# EAGLE library part USB_MULTI (library connector)
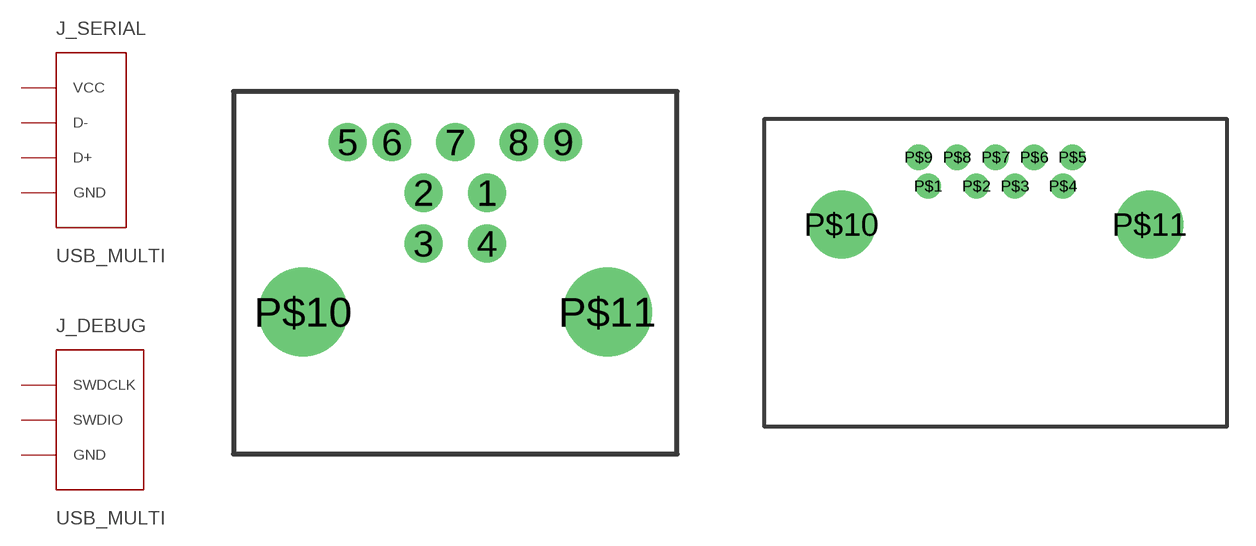
[diagram p5: symbol with the pads of USB3.0_B; footprints USB3.0_B, USB3.0_A]

Designator prefix J; gates _SERIAL=USB _DEBUG=USB_DEBUG

## USB_MULTI  [USB3.0_B]
1  _SERIAL:VCC
2  _SERIAL:D-
3  _SERIAL:D+
4  _SERIAL:GND
6  _DEBUG:SWDIO
7  _DEBUG:GND
9  _DEBUG:SWDCLK
P$10  _SERIAL:GND
P$11  _SERIAL:GND

## USB_MULTI_ATYPE_ANGLE  [USB3.0_A]
P$1  _SERIAL:VCC
P$2  _SERIAL:D-
P$3  _SERIAL:D+
P$4  _SERIAL:GND
P$6  _DEBUG:SWDIO
P$7  _DEBUG:GND
P$9  _DEBUG:SWDCLK
P$10  _SERIAL:GND
P$11  _SERIAL:GND

## Footprint USB3.0_B (pad centres in mm)
drill 1: 1 0,0; 2 -2.5,0; 3 -2.5,-2; 4 0,-2; 5 -5.5,2; 6 -3.75,2; 7 -1.25,2; 8 1.25,2; 9 3,2
drill 2.5: P$10 -7.25,-4.7; P$11 4.75,-4.7

## Footprint USB3.0_A (pad centres in mm)
drill 0.8: P$1 -3.5,-1.5; P$2 -1,-1.5; P$3 1,-1.5; P$4 3.5,-1.5; P$5 4,0; P$6 2,0; P$7 0,0; P$8 -2,0; P$9 -4,0
drill 2.5: P$10 -8,-3.5; P$11 8,-3.5